# Altium footprint library Custom_Footprints.PcbLib: 16 footprints
Each footprint in its own frame and in the unit in brackets; x right, y up, seen from the top. Pads: shape width x height; smd on the part's side, far side on the other; paste and mask are expansions set on the pad; w line width, h text height; cw(c..) or ccw(c..) is an arc to the next point about the centre after c.
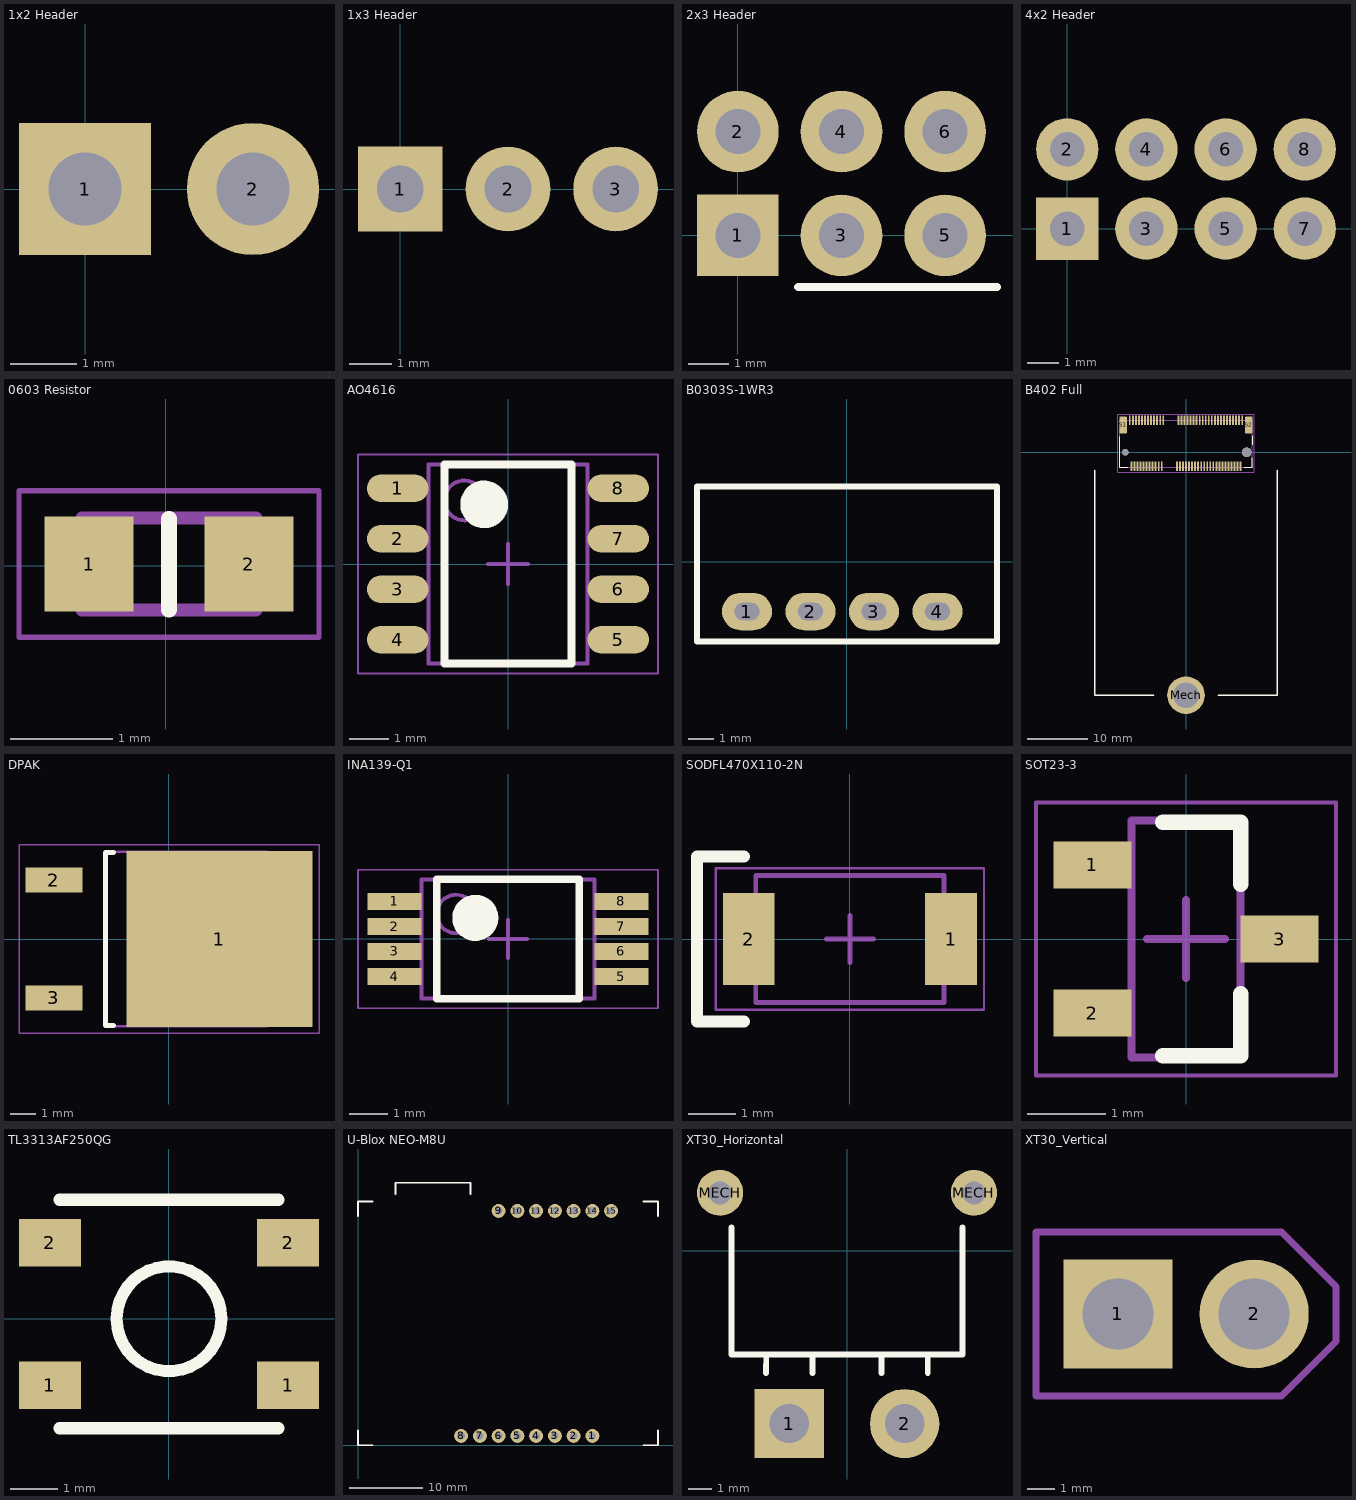
[diagram p0: the footprints below, top view; thin cyan lines are the x and y axes]

## 1x2 Header [mm] "Connector; Header; 2 Position"
pads (2):
  rect 2x2 hole 1.1: 1(0,0)
  round 2 hole 1.1: 2(2.54,0)
3D body "1-2_Header.stp": height 8.55, standoff -2.99, extent -1.288,-1.27 3.792,1.27

## 1x3 Header [mm] "Connector; Header; 3 Position"
pads (3):
  rect 2x2 hole 1.1: 1(0,0)
  round 2 hole 1.1: 2(2.54,0) 3(5.08,0)
3D body "1-3_Socket.STEP": height 7.01, standoff -2.99, extent -1.27,-1.27 6.35,1.27

## 2x3 Header [mm] "Connector; Header; 3x2 Position"
pads (6):
  rect 2x2 hole 1.1: 1(0,0)
  round 2 hole 1.1: 2(0,2.54) 3(2.54,0) 4(2.54,2.54) 5(5.08,0) 6(5.08,2.54)
Top Overlay:
  lines w0.2: 1.482,-1.27 6.35,-1.27
3D body "2-3_Header.STEP": height 2.65, standoff -8.78, extent -1.27,-1.145 6.35,3.685

## 4x2 Header [mm] "Connector; Header; 4x2 Position"
pads (8):
  rect 2x2 hole 1.1: 1(0,0)
  round 2 hole 1.1: 2(0,2.54) 3(2.54,0) 4(2.54,2.54) 5(5.08,0) 6(5.08,2.54) 7(7.62,0) 8(7.62,2.54)
3D body "2-4_Header.stp": height 8.39, standoff -2.53, extent -1.28,-1.34 8.88,3.74

## 0603 Resistor [mm]
pads (2):
  rect 0.87x0.93 smd: 1(-0.748,0.016) 2(0.812,0.016)
Top Overlay:
  lines w0.152: 0.032,-0.432 0.032,0.457
Mechanical 13:
  lines w0.127: -0.818,-0.434 0.882,-0.434 0.882,0.466 -0.818,0.466 -0.818,-0.434
Mechanical 15:
  lines w0.05: -1.433,-0.699 -1.433,0.731 1.497,0.731 1.497,-0.699 -1.433,-0.699
3D body "0603 Resistor.step": height 0.45, standoff 0, extent -0.8,-0.4 0.8,0.4

## AO4616 [mm] "SOIC, 8-Leads, Body 5.00x4.00mm, Pitch 1.27mm, IPC Medium Density"
height 1.65
pads (8):
  oval 1.55x0.7 smd: 1(-2.775,1.905) 2(-2.775,0.635) 3(-2.775,-0.635) 4(-2.775,-1.905) 5(2.775,-1.905) 6(2.775,-0.635) 7(2.775,0.635) 8(2.775,1.905)
Top Overlay:
  circle w0.6: c-0.6,1.5 r0.3
  lines w0.2: -1.6,-2.5 -1.6,2.5 1.6,2.5 1.6,-2.5 -1.6,-2.5
Mechanical 13:
  circle w0.1: c-1.1,1.6 r0.5
  lines w0.1: -2,-2.5 -2,2.5 2,2.5 2,-2.5 -2,-2.5
Mechanical 15:
  lines w0.05: -3.775,-2.75 -3.775,2.75 3.775,2.75 3.775,-2.75 -3.775,-2.75
  lines w0.1: -0.5,0 0.5,0 ; 0,-0.5 0,0.5
3D body "SOIC127P620X165-8N.step": height 1.65, standoff 0, extent -3.1,-2.5 3.1,2.5

## B0303S-1WR3 [mm]
pads (4):
  oval 2x1.5 hole 0.7 slot 1 at 0 deg: 1(-4,-2) 2(-1.46,-2) 3(1.08,-2) 4(3.62,-2)
Top Overlay:
  lines w0.254: -6,-3.2 6,-3.2 6,3 -6,3 -6,-3.2
3D body: height 10, standoff 0, extent -6,-3 6,3

## B402 Full [mm]
pads (72):
  rrect15% 0.3x1.55 smd: 1(-9.25,5.275) 2(-9,-2.275) 3(-8.75,5.275) 4(-8.5,-2.275) 5(-8.25,5.275) 6(-8,-2.275) 7(-7.75,5.275) 8(-7.5,-2.275) 9(-7.25,5.275) 10(-7,-2.275) 11(-6.75,5.275) 12(-6.5,-2.275) 13(-6.25,5.275) 14(-6,-2.275) 15(-5.75,5.275) 16(-5.5,-2.275) 17(-5.25,5.275) 18(-5,-2.275) 19(-4.75,5.275) 20(-4.5,-2.275) 21(-4.25,5.275) 22(-4,-2.275) 23(-3.75,5.275) 32(-1.5,-2.275) 33(-1.25,5.275) 34(-1,-2.275) 35(-0.75,5.275) 36(-0.5,-2.275) 37(-0.25,5.275) 38(0,-2.275) 39(0.25,5.275) 40(0.5,-2.275) 41(0.75,5.275) 42(1,-2.275) 43(1.25,5.275) 44(1.5,-2.275) 45(1.75,5.275) 46(2,-2.275) 47(2.25,5.275) 48(2.5,-2.275) 49(2.75,5.275) 50(3,-2.275) 51(3.25,5.275) 52(3.5,-2.275) 53(3.75,5.275) 54(4,-2.275) 55(4.25,5.275) 56(4.5,-2.275) 57(4.75,5.275) 58(5,-2.275) 59(5.25,5.275) 60(5.5,-2.275) 61(5.75,5.275) 62(6,-2.275) 63(6.25,5.275) 64(6.5,-2.275) 65(6.75,5.275) 66(7,-2.275) 67(7.25,5.275) 68(7.5,-2.275) 69(7.75,5.275) 70(8,-2.275) 71(8.25,5.275) 72(8.5,-2.275) 73(8.75,5.275) 74(9,-2.275) 75(9.25,5.275)
  round 6.2 hole 4.25: Mech(0,-40)
  rrect15% 1.2x2.75 smd: S1(-10.35,4.5) S2(10.35,4.5)
  round 1.1 hole 1.1 unplated: ""(-10,0)
  round 1.6 hole 1.6 unplated: ""(10,0)
Top Overlay:
  lines w0.127: -10.95,2.55 -10.95,-2.5 -9.6,-2.5 ; 9.6,-2.5 10.95,-2.5 10.95,-0.9 ; 11,1.2 11,2.7
  lines w0.254: -15,-3 -15,-40 -5.3,-40 ; 5.3,-40 15,-40 15,-3
Mechanical 13:
  lines w0.127: -10.95,-2.5 -10.95,5.25 10.95,5.25 10.95,-2.5 -10.95,-2.5
Mechanical 15:
  lines w0.05: -11.2,-3.3 11.2,-3.3 11.2,6.3 -11.2,6.3 -11.2,-3.3
3D body "2199230-4--3DModel-STEP-56544.STEP": height 4.21, standoff -0.64, extent -10.95,-2.85 10.95,5.85
3D body "B402.step": height 6.2, standoff 0.94, extent -15,-40 15,2

## DPAK [mm] "D-PAK, 3-Pads, Body 6.21x6.73mm (max), IPC Medium Density"
height 2.39
pads (3):
  rect 7.2x6.8 smd: 1(1.95,0)
  rect 2.2x0.95 smd: 2(-4.45,2.28) 3(-4.45,-2.28)
Top Overlay:
  lines w0.2: -2.15,-3.35 -2.45,-3.35 -2.45,3.35 -2.15,3.35
Mechanical 13:
  lines w0.1: -2.45,-3.375 3.77,-3.375 3.77,3.375 -2.45,3.375 -2.45,-3.375
Mechanical 15:
  lines w0.05: -5.8,-3.65 5.8,-3.65 5.8,3.65 -5.8,3.65 -5.8,-3.65
  lines w0.1: -0.5,0 0.5,0 ; 0,-0.5 0,0.5
3D body: height 2.39, standoff 0, extent -2.45,-3.375 3.77,3.375

## INA139-Q1 [mm] "TSOP, 8-Leads, Body 3.00x4.40mm, Pitch 0.65mm, IPC Medium Density"
height 1.2
pads (8):
  rect 1.4x0.45 smd mask+0.127: 1(-2.95,0.975) 2(-2.95,0.325) 3(-2.95,-0.325) 4(-2.95,-0.975) 5(2.95,-0.975) 6(2.95,-0.325) 7(2.95,0.325) 8(2.95,0.975)
Top Overlay:
  circle w0.6: c-0.85,0.55 r0.3
  lines w0.2: -1.85,-1.55 -1.85,1.55 1.85,1.55 1.85,-1.55 -1.85,-1.55
Mechanical 13:
  circle w0.1: c-1.35,0.65 r0.5
  lines w0.1: -2.25,-1.55 -2.25,1.55 2.25,1.55 2.25,-1.55 -2.25,-1.55
Mechanical 15:
  lines w0.05: -3.9,-1.8 -3.9,1.8 3.9,1.8 3.9,-1.8 -3.9,-1.8
  lines w0.1: -0.5,0 0.5,0 ; 0,-0.5 0,0.5
3D body: height 0.25, standoff 0, extent -2.25,-1.55 2.25,1.55

## SODFL470X110-2N [mm] "SODFL, 2-Leads, Body 2.50x4.70mm, IPC Medium Density"
height 1.1
pads (2):
  rect 1.1x1.95 smd: 1(2.15,0) 2(-2.15,0)
Top Overlay:
  lines w0.254: -2.25,-1.75 -3.25,-1.75 -3.25,1.75 -2.25,1.75
Mechanical 13:
  lines w0.1: -2,-1.35 2,-1.35 2,1.35 -2,1.35 -2,-1.35
Mechanical 15:
  lines w0.05: -2.85,-1.5 2.85,-1.5 2.85,1.5 -2.85,1.5 -2.85,-1.5
  lines w0.1: -0.5,0 0.5,0 ; 0,-0.5 0,0.5
3D body "SODFL470X110-2N.step": height 1.1, standoff 0, extent -2.35,-1.35 2.35,1.35

## SOT23-3 [mm] "SOT23, 3-Leads, Body 2.92x2.45mm, Pitch 0.95mm, IPC Medium Density"
height 1.1
pads (3):
  rect 1x0.6 smd: 1(-1.2,0.95) 2(-1.2,-0.95) 3(1.2,0)
Top Overlay:
  lines w0.2: -0.3,-1.5 0.7,-1.5 0.7,-0.7 ; -0.3,1.5 0.7,1.5 0.7,0.7
Mechanical 13:
  lines w0.1: -0.7,-1.52 0.7,-1.52 0.7,1.52 -0.7,1.52 -0.7,-1.52
Mechanical 15:
  lines w0.05: -1.925,-1.75 1.925,-1.75 1.925,1.75 -1.925,1.75 -1.925,-1.75
  lines w0.1: -0.5,0 0.5,0 ; 0,-0.5 0,0.5
3D body: height 1.1, standoff 0.05, extent -0.7,-1.52 0.7,1.52

## TL3313AF250QG [mm] "Switch"
pads (4):
  rect 1.3x1 smd: 1(-2.5,-1.4) 1(2.5,-1.4) 2(-2.5,1.6) 2(2.5,1.6)
Top Overlay:
  circle w0.254: c0,0 r1.1
  lines w0.254: -2.3,-2.3 2.3,-2.3 ; -2.3,2.5 2.3,2.5
3D body "TL3313AF250QG--3DModel-STEP-520916.STEP": height 1.4, standoff -0.1, extent -3,-2.2 3,2.4

## U-Blox NEO-M8U [mil]
pads (15):
  round 74 hole 40: 1(1250,50) 2(1150,50) 3(1050,50) 4(950,50) 5(850,50) 6(750,50) 7(650,50) 8(550,50) 9(750,1250) 10(850,1250) 11(950,1250) 12(1050,1250) 13(1150,1250) 14(1250,1250) 15(1350,1250)
Top Overlay:
  lines w10: 0,78.74 0,0 78.74,0 ; 0,1221.26 0,1300 78.74,1300 ; 200,1338.58 200,1400 600,1400 600,1338.58 ; 1521.26,0 1600,0 1600,78.74 ; 1521.26,1300 1600,1300 1600,1221.26
3D body "8-Pin Socket.stp": height 335.15, standoff -113.67, extent 500,0 1300,100
3D body "7-Pin Socket.stp": height 335.15, standoff -113.67, extent 700,1200 1400,1300

## XT30_Horizontal [mm]
pads (4):
  rect 3x3 hole 1.7: 1(-2.5,-7.5)
  round 3 hole 1.7: 2(2.5,-7.5)
  round 2 hole 1: MECH(-5.5,2.5) MECH(5.5,2.5)
Top Overlay:
  lines w0.254: -5,1 -5,-4.5 5,-4.5 5,1 ; -3.504,-5.3 -3.5,-4.5 ; -1.5,-5.3 -1.5,-4.5 ; 1.5,-5.3 1.5,-4.5 ; 3.5,-5.3 3.5,-4.5
3D body "Amass_XT30PW-M_pcb solder.stp": height 5.01, standoff -3.44, extent -6.65,-8.45 6.65,5.5

## XT30_Vertical [mm]
pads (2):
  rect 4x4 hole 2.6: 1(-52,124)
  round 4 hole 2.6: 2(-47,124)
Mechanical 1:
  lines w0.254: -55,121 -46,121 -44,123 -44,125 -46,127 -55,127 -55,121